# Altium footprint library PcbLib1.PcbLib: 1 footprints
Each footprint in its own frame and in the unit in brackets; x right, y up, seen from the top. Pads: shape width x height; smd on the part's side, far side on the other; paste and mask are expansions set on the pad; w line width, h text height; cw(c..) or ccw(c..) is an arc to the next point about the centre after c.
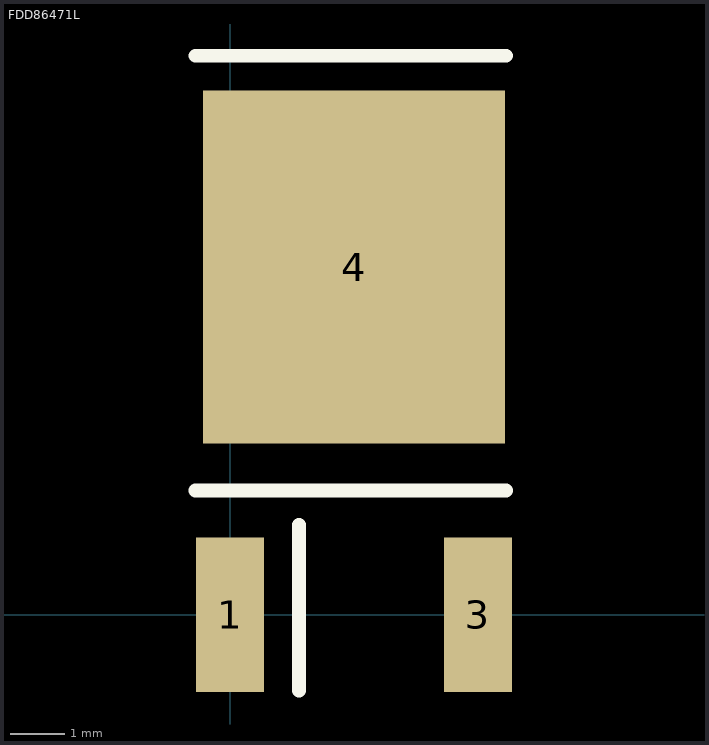
[diagram p0: the footprint, top view; thin cyan lines are the x and y axes]

## FDD86471L [mm]
pads (3):
  rect 1.25x2.85 smd: 1(0,0) 3(4.56,0)
  rect 5.55x6.5 smd: 4(2.28,6.4)
Top Overlay:
  lines w0.254: -0.635,2.286 5.08,2.286 ; -0.635,10.287 5.08,10.287 ; 1.27,-1.397 1.27,1.651